# EAGLE library part USB_MICRO_SENKRECHT (library stock_components)
Mouser: 538-105133-0001
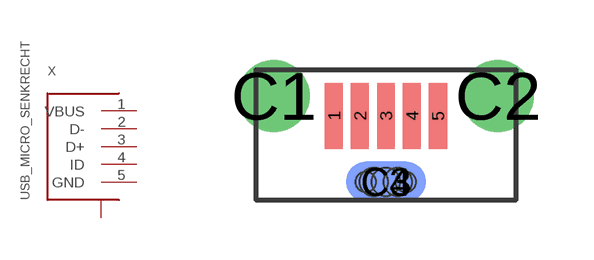
[diagram p6: symbol with the pads of USB_MOLEX_SENKRECHT; footprint USB_MOLEX_SENKRECHT]

Designator prefix X

## USB_MICRO_SENKRECHT  [USB_MOLEX_SENKRECHT]
1  VBUS
2  D-
3  D+
4  ID
5  GND
C1  CASE
C2  CASE
C3  CASE
C4  CASE

## Footprint USB_MOLEX_SENKRECHT (pad centres in mm)
Datasheet: https://www.mouser.ch/datasheet/2/276/1051330001_sd-155536.pdf
smd 0.45 x 1.65: 1 -1.3,-0.5; 2 -0.65,-0.5; 3 0,-0.5; 4 0.65,-0.5; 5 1.3,-0.5
drill 1.2: C1 -2.8,0; C2 2.8,0
smd 2 x 1 bottom: C3 0,-2.15
smd 2 x 1: C4 0,-2.15
hole 0.5 at -0.5,-2.15
hole 0.7 at 0,-2.15
hole 0.5 at 0.5,-2.15
hole 0.7 at 0.3,-2.15
hole 0.7 at -0.3,-2.15